# EAGLE library part TXS0206-29 (library Tari)
SD level shifter + LDO regulator. Level shifter for interface with SD/MMC memory cards. LDO regulator provides voltage for driving memory card supply with input on VBATT and output on VCCB.
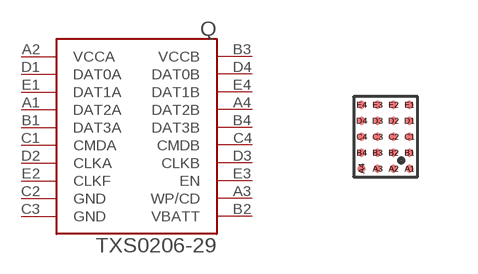
[diagram p5: symbol with the pads of YFP-R-XBGA-N20; footprint YFP-R-XBGA-N20]

Designator prefix Q

## TXS0206-29  [YFP-R-XBGA-N20]
A1  DAT2A
A2  VCCA
A3  WP/CD
A4  DAT2B
B1  DAT3A
B2  VBATT
B3  VCCB
B4  DAT3B
C1  CMDA
C2  GND  pwr
C3  GND  pwr
C4  CMDB
D1  DAT0A
D2  CLKA
D3  CLKB
D4  DAT0B
E1  DAT1A
E2  CLKF
E3  EN
E4  DAT1B

## Footprint YFP-R-XBGA-N20 (pad centres in mm)
TI's 20-ball die-scale BGA.
smd 0.2 x 0.2: A1 0,0; A2 -0.4,0; A3 -0.8,0; A4 -1.2,0; B1 0,0.4; B2 -0.4,0.4; B3 -0.8,0.4; B4 -1.2,0.4; C1 0,0.8; C2 -0.4,0.8; C3 -0.8,0.8; C4 -1.2,0.8; D1 0,1.2; D2 -0.4,1.2; D3 -0.8,1.2; D4 -1.2,1.2; E1 0,1.6; E2 -0.4,1.6; E3 -0.8,1.6; E4 -1.2,1.6